# Altium footprint library IC.PcbLib: 3 footprints
Each footprint in its own frame and in the unit in brackets; x right, y up, seen from the top. Pads: shape width x height; smd on the part's side, far side on the other; paste and mask are expansions set on the pad; w line width, h text height; cw(c..) or ccw(c..) is an arc to the next point about the centre after c.
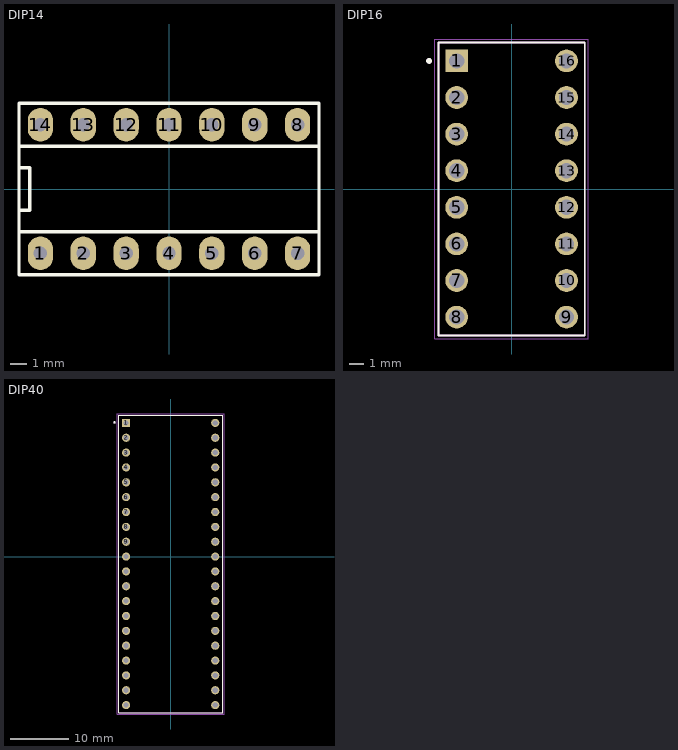
[diagram p0: the footprints below, top view; thin cyan lines are the x and y axes]

## DIP14 [mm]
pads (14):
  oval 1.5x2 hole 0.8: 1(-7.62,-3.81) 2(-5.08,-3.81) 3(-2.54,-3.81) 4(0,-3.81) 5(2.54,-3.81) 6(5.08,-3.81) 7(7.62,-3.81) 8(7.62,3.81) 9(5.08,3.81) 10(2.54,3.81) 11(0,3.81) 12(-2.54,3.81) 13(-5.08,3.81) 14(-7.62,3.81)
Top Overlay:
  lines w0.203: -8.89,-2.54 -8.89,-1.27 ; -8.89,-2.54 -8.89,-1.27 ; -8.89,-2.54 8.89,-2.54 ; -8.89,-2.54 8.89,-2.54 ; -8.89,-1.27 -8.255,-1.27 ; -8.89,-1.27 -8.89,1.27 ; -8.89,-1.27 -8.255,-1.27 ; -8.89,-1.27 -8.89,1.27 ; -8.89,1.27 -8.255,1.27 ; -8.89,1.27 -8.89,2.54 ; -8.89,1.27 -8.255,1.27 ; -8.89,1.27 -8.89,2.54 ; -8.89,2.54 8.89,2.54 ; -8.89,2.54 8.89,2.54 ; -8.255,-1.27 -8.255,1.27 ; -8.255,-1.27 -8.255,1.27 ; 8.89,-2.54 8.89,2.54 ; -8.89,-5.08 8.89,-5.08 8.89,5.08 -8.89,5.08 -8.89,-5.08
3D body "DILB14P-223TLF--3DModel-STEP-554624.STEP": height 5.25, standoff -3.45, extent -8.89,-5.08 8.89,5.08

## DIP16 [mm]
height 5.25
pads (16):
  rect 1.575x1.575 hole 1.05: 1(-3.81,8.89)
  round 1.575 hole 1.05: 2(-3.81,6.35) 3(-3.81,3.81) 4(-3.81,1.27) 5(-3.81,-1.27) 6(-3.81,-3.81) 7(-3.81,-6.35) 8(-3.81,-8.89) 9(3.81,-8.89) 10(3.81,-6.35) 11(3.81,-3.81) 12(3.81,-1.27) 13(3.81,1.27) 14(3.81,3.81) 15(3.81,6.35) 16(3.81,8.89)
Top Overlay:
  circle w0.2: c-5.73,8.89 r0.1
  lines w0.127: -5.08,-10.16 5.08,-10.16 5.08,10.16 -5.08,10.16 -5.08,-10.16
Mechanical 13:
  circle w0.2: c-5.73,8.89 r0.1
  lines w0.127: -5.08,-10.16 -5.08,10.16 5.08,10.16 5.08,-10.16 -5.08,-10.16
Mechanical 15:
  lines w0.05: -5.33,-10.41 5.33,-10.41 5.33,10.41 -5.33,10.41 -5.33,-10.41
3D body "step_temp.STEP": height 5.25, standoff -3.45, extent -5.08,-10.16 5.08,10.16

## DIP40 [mil]
pads (40):
  rect 55x55 hole 35: 1(-300,900)
  round 55 hole 35: 2(-300,800) 3(-300,700) 4(-300,600) 5(-300,500) 6(-300,400) 7(-300,300) 8(-300,200) 9(-300,100) 10(-300,0) 11(-300,-100) 12(-300,-200) 13(-300,-300) 14(-300,-400) 15(-300,-500) 16(-300,-600) 17(-300,-700) 18(-300,-800) 19(-300,-900) 20(-300,-1000) 21(300,-1000) 22(300,-900) 23(300,-800) 24(300,-700) 25(300,-600) 26(300,-500) 27(300,-400) 28(300,-300) 29(300,-200) 30(300,-100) 31(300,0) 32(300,100) 33(300,200) 34(300,300) 35(300,400) 36(300,500) 37(300,600) 38(300,700) 39(300,800) 40(300,900)
Top Overlay:
  circle w7.87: c-378.35,903.54 r3.94
  lines w5: -350,-1050 350,-1050 350,950 -350,950 -350,-1050
Mechanical 13:
  circle w7.87: c-378.35,903.54 r3.94
  lines w5: -350,-1050 350,-1050 350,950 -350,950 -350,-1050
Mechanical 15:
  lines w1.97: -359.84,-1059.84 359.84,-1059.84 359.84,959.84 -359.84,959.84 -359.84,-1059.84
3D body "IC_Socket_40_R4.step": height 182.32, standoff -112.95, extent -348.82,-1050 348.82,950